# Altium footprint library nail_detector1.PcbLib: 33 footprints (part 1 of 3)
Each footprint in its own frame and in the unit in brackets; x right, y up, seen from the top. Pads: shape width x height; smd on the part's side, far side on the other; paste and mask are expansions set on the pad; w line width, h text height; cw(c..) or ccw(c..) is an arc to the next point about the centre after c.
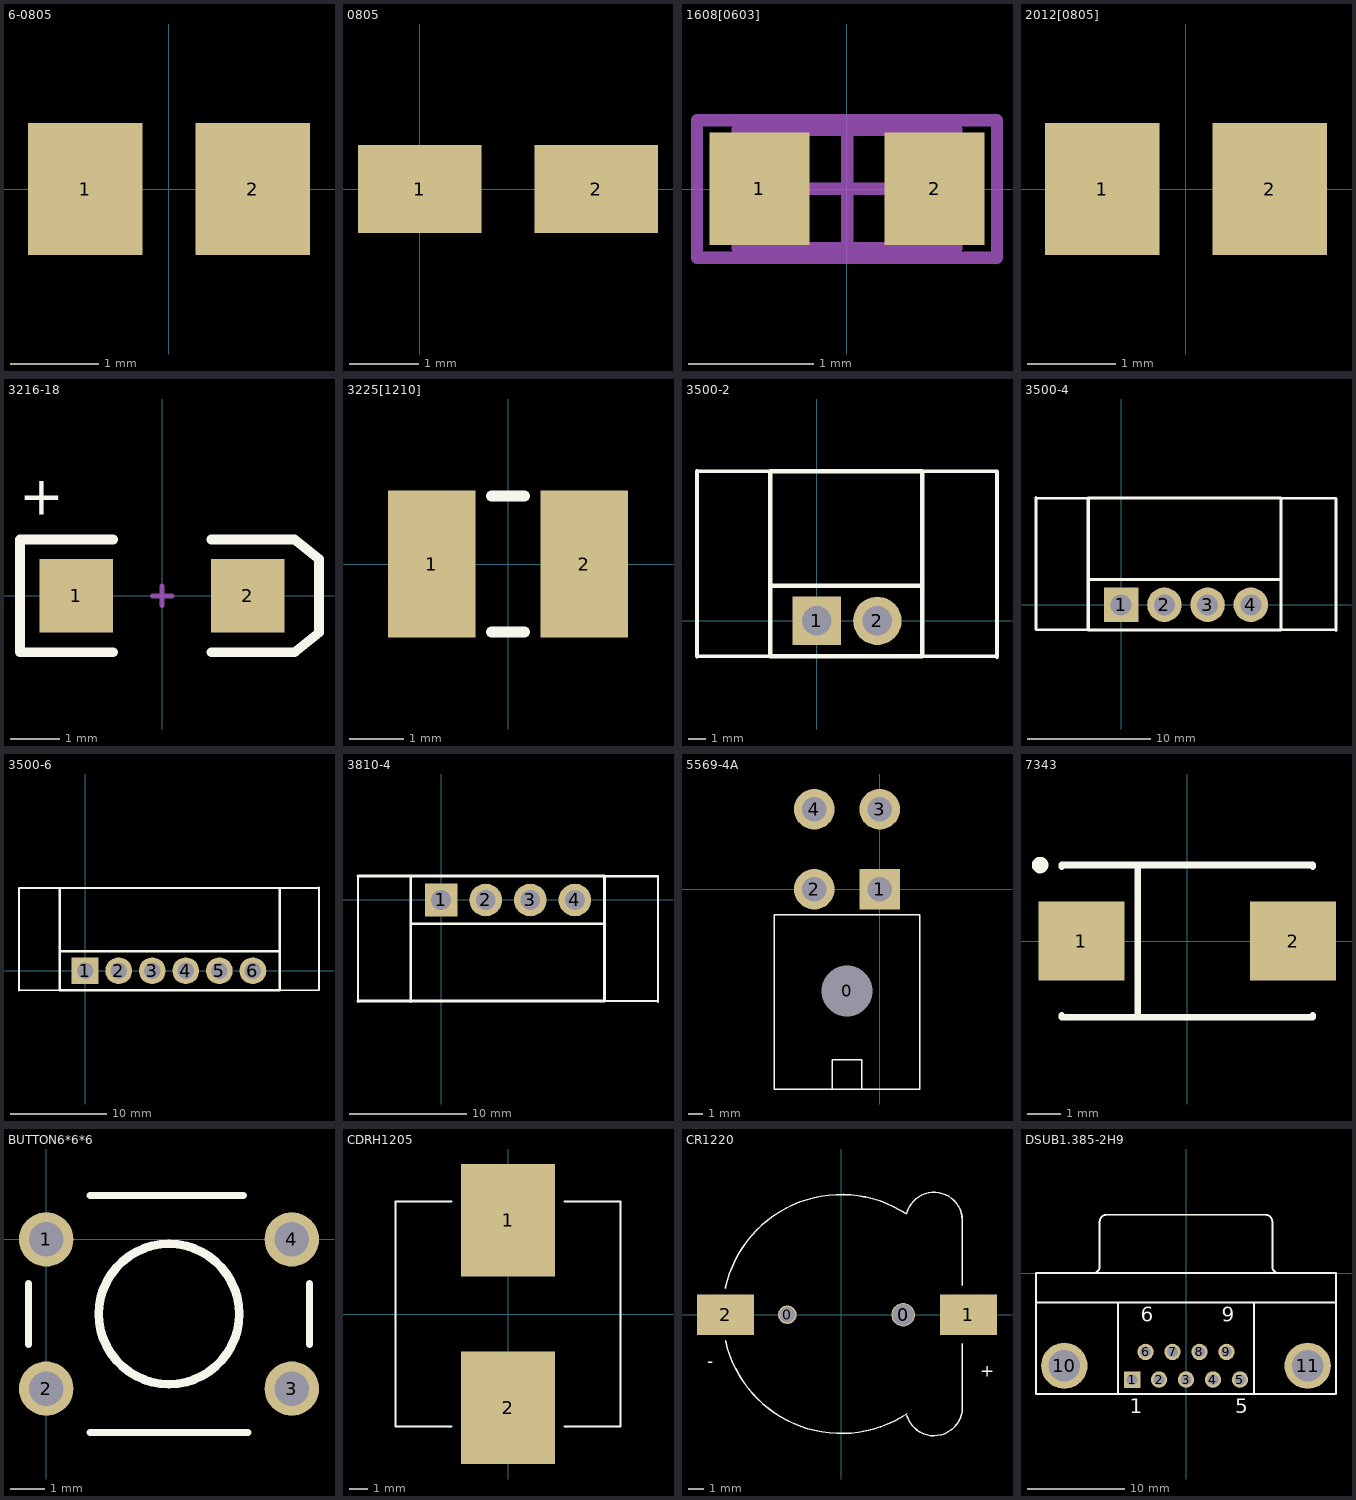
[diagram p0: the footprints below, top view; thin cyan lines are the x and y axes]

## 6-0805 [mm] "Chip Resistor; Body 2.0 x 1.3 mm (LxW typ)"
height 0.65
pads (2):
  rect 1.3x1.5 smd: 1(-0.95,0) 2(0.95,0)

## 0805 [mil]
height 62.99
pads (2):
  rect 70x50 smd: 1(0,0) 2(100,0)

## 1608[0603] [mm] "Chip Capacitor, Body 1.6x0.8mm, IPC High Density"
height 1.3
pads (2):
  rect 0.8x0.9 smd: 1(-0.7,0) 2(0.7,0)
Mechanical 13:
  lines w0.1: -0.875,-0.475 -0.875,0.475 0.875,0.475 0.875,-0.475 -0.875,-0.475
Mechanical 15:
  lines w0.1: -0.475,0 0.475,0 ; 0,-0.475 0,0.475 ; -1.2,-0.55 -1.2,0.55 1.2,0.55 1.2,-0.55 -1.2,-0.55
3D body: height 1.3, standoff 0, extent -0.875,-0.475 0.875,0.475

## 2012[0805] [mm] "Chip Resistor; Body 2.0 x 1.3 mm (LxW typ)"
height 2.54
pads (2):
  rect 1.3x1.5 smd: 1(-0.95,0) 2(0.95,0)

## 3216-18 [mm]
height 1.8
pads (2):
  rect 1.5x1.5 smd: 1(-1.75,0) 2(1.75,0)
Top Overlay:
  lines w0.2: -1,-1.15 -2.9,-1.15 -2.9,1.15 -1,1.15 ; 1,-1.15 2.7,-1.15 3.2,-0.75 3.2,0.75 2.7,1.15 1,1.15
  text "+" at -2.921,1.651 h0.8
Mechanical 1:
  lines w0.1: -0.2,0 0.2,0 ; 0,-0.2 0,0.2
3D body: height 1.6, standoff 0, extent -1.625,-0.8 1.575,0.8

## 3225[1210] [mm] "Chip Resistor; Body 3.2 x 2.5 mm (LxW typ)"
height 0.6
pads (2):
  rect 1.6x2.7 smd: 1(-1.4,0) 2(1.4,0)
Top Overlay:
  lines w0.2: -0.3,-1.25 0.3,-1.25 ; -0.3,1.25 0.3,1.25

## 3500-2 [mil]
height 314.96
pads (2):
  rect 110x110 hole 66.93: 1(0,0)
  round 110 hole 66.93: 2(137.8,0)
Top Overlay:
  lines w7.87: -266.65,-80 -104,-80 ; -266.65,340 -105,340 ; 227,-80 407.45,-80 ; 230,340 407.45,340
  lines w10: -271.65,-80 -271.65,340 ; -105,-80 -105,340 240,340 ; -104,-80 240,-80 240,336 ; -100,80 240,80 ; 409.45,-82 409.45,338
3D body: height 314.96, standoff 0, extent -271.65,-80 409.45,341

## 3500-4 [mil]
height 314.96
pads (4):
  rect 110x110 hole 66.93: 1(0,0)
  round 110 hole 66.93: 2(137.8,0) 3(275.59,0) 4(413.39,0)
Top Overlay:
  lines w7.87: -269.65,-80 -105,-80 ; -269.65,340 -105,340 ; 483,-80 683.04,-80 ; 510,340 683.04,340
  lines w10: -271.65,-78 -271.65,342 ; -100,80 510,80 ; 685.04,-82 685.04,338 ; -105,-80 -105,340 510,340 510,-80 -105,-80
3D body: height 314.96, standoff 0, extent -271.65,-80 685.04,331

## 3500-6 [mil]
height 314.96
pads (6):
  rect 110x110 hole 66.93: 1(0,0)
  round 110 hole 66.93: 2(137.8,0) 3(275.59,0) 4(413.39,0) 5(551.18,0) 6(688.98,0)
Top Overlay:
  lines w7.87: -271.65,-80 -92,-80 ; -271.65,340 -105,340 ; 789,-80 959.63,-80 ; 790,340 959.63,340
  lines w10: -271.65,-80 -271.65,340 ; -100,80 800,80 ; 960.63,-79 960.63,341 ; -105,-80 800,-80 800,340 -105,340 -105,-80
3D body: height 314.96, standoff 0, extent -271.65,-80 960.63,330

## 3810-4 [mil]
height 23.62
pads (4):
  rect 110x110 hole 66.93: 1(0,0)
  round 110 hole 66.93: 2(150,0) 3(300,0) 4(450,0)
Top Overlay:
  lines w7.87: -279.53,-342.52 -279.53,78.74 ; -102.36,-342.52 -102.36,78.74 ; 511.81,-340 727.01,-340 ; 511.81,80 728.27,80 ; 729.53,-342.52 729.53,78.74
  lines w10: -279.53,-340 550,-340 550,75 ; -279.53,80 550,80 ; -100,-80 550,-80
3D body: height 314.96, standoff 0, extent -279.53,-322.83 729.53,70.87

## 5569-4A [mm] "MOLEX 5569-4A"
pads (5):
  round 1.524 hole 3.5 unplated: 0(-2.25,-7)
  rect 2.794x2.794 hole 1.7: 1(0,0)
  round 2.794 hole 1.7: 2(-4.5,0) 3(0,5.5) 4(-4.5,5.5)
Top Overlay:
  lines w0.1: -3.25,-13.75 -3.25,-11.75 -1.25,-11.75 -1.25,-13.75 ; -7.25,-13.75 2.75,-13.75 2.75,-1.75 -7.25,-1.75 -7.25,-13.75

## 7343 [mm] "Capacitor, SM Tantalum; Body 7.3 x 4.3 mm (LxW typ)"
height 3.1
pads (2):
  rect 2.6x2.4 smd: 1(-3.2,0) 2(3.2,0)
Top Overlay:
  circle w0.25: c-4.45,2.3 r0.125
  lines w0.2: -3.8,-2.25 -3.8,-2.3 3.8,-2.3 3.8,-2.25 ; -3.8,2.25 -3.8,2.3 3.8,2.3 3.8,2.25 ; -1.5,-2.3 -1.5,2.3

## BUTTON6*6*6 [mil]
height 62.99
pads (4):
  round 62 hole 39.37: 1(0,0) 2(0,-170) 3(280,-170) 4(280,0)
Top Overlay:
  circle w10: c140,-85 r80
  lines w7.87: -20,-120 -20,-50 ; 50,-220 230,-220 ; 50,50 225,50 ; 300,-120 300,-50
3D body: height 275.59, standoff -137.8, extent -12.51,-208.04 298.51,36.05

## CDRH1205 [mm]
height 6
pads (2):
  rect 5x6 smd: 1(0,5) 2(0,-5)
Top Overlay:
  lines w0.1: -3,-6 -6,-6 -6,5 -6,6 -3,6 ; 3,-6 6,-6 6,6 3,6
3D body: height 6, standoff 0, extent -6.02,-5.944 5.933,6.033

## CR1220 [mm] "battery cr1220"
height 2
pads (4):
  round 1.2 hole 1: 0(-3.5,0)
  round 1.524 hole 1.4: 0(4,0)
  rect 3.7x2.6 smd: 1(8.23,0) 2(-7.5,0)
Top Overlay:
  lines w0.1: -7.515,1.734 cw(c0,0.1) 4.217,6.531 ; -7.5,-1.7 ccw(c0,0) 4.227,-6.425 ; 4.228,6.573 cw(c6,6.1) 7.826,5.926 7.826,1.926 ; 4.243,-6.527 ccw(c6,-6) 7.823,-5.797 7.823,-1.877
  text "+" at 9,-4 h0.8
  text "-" at -8.7,-3.4 h0.8

## DSUB1.385-2H9 [mm] "Connector; D Subminiature; 9 Position; Right Angle; Pitch 1.385 mm"
height 12.75
pads (11):
  rect 1.69x1.69 hole 1.09: 1(-5.54,-10.92)
  round 1.69 hole 1.09: 2(-2.77,-10.92) 3(0,-10.92) 4(2.77,-10.92) 5(5.54,-10.92) 6(-4.155,-8.08) 7(-1.385,-8.08) 8(1.385,-8.08) 9(4.155,-8.08)
  round 4.76 hole 3.26: 10(-12.495,-9.5) 11(12.495,-9.5)
Top Overlay:
  lines w0.2: -15.4,-3 15.4,-3 ; -9.56,0.005 ccw(c-9.56,0.7) -8.865,0.7 -8.865,5.3 ; -8.86,5.305 cw(c-8.165,5.305) -8.165,6 8.165,6 cw(c8.165,5.305) 8.86,5.305 ; -7,-12.4 -7,-3 ; 7,-12.4 7,-3 ; 8.865,5.3 8.865,0.7 ccw(c9.56,0.7) 9.56,0.005 ; -15.4,-12.4 15.4,-12.4 15.4,0 -15.4,0 -15.4,-12.4
  text "6" at -4.655,-4.975 h1.5
  text "9" at 3.655,-4.975 h1.5
  text "5" at 5.04,-14.375 h1.5
  text "1" at -5.79,-14.375 h1.5